# Altium schematic symbol library Esqlib.SchLib: 44 symbols (part 2 of 5)
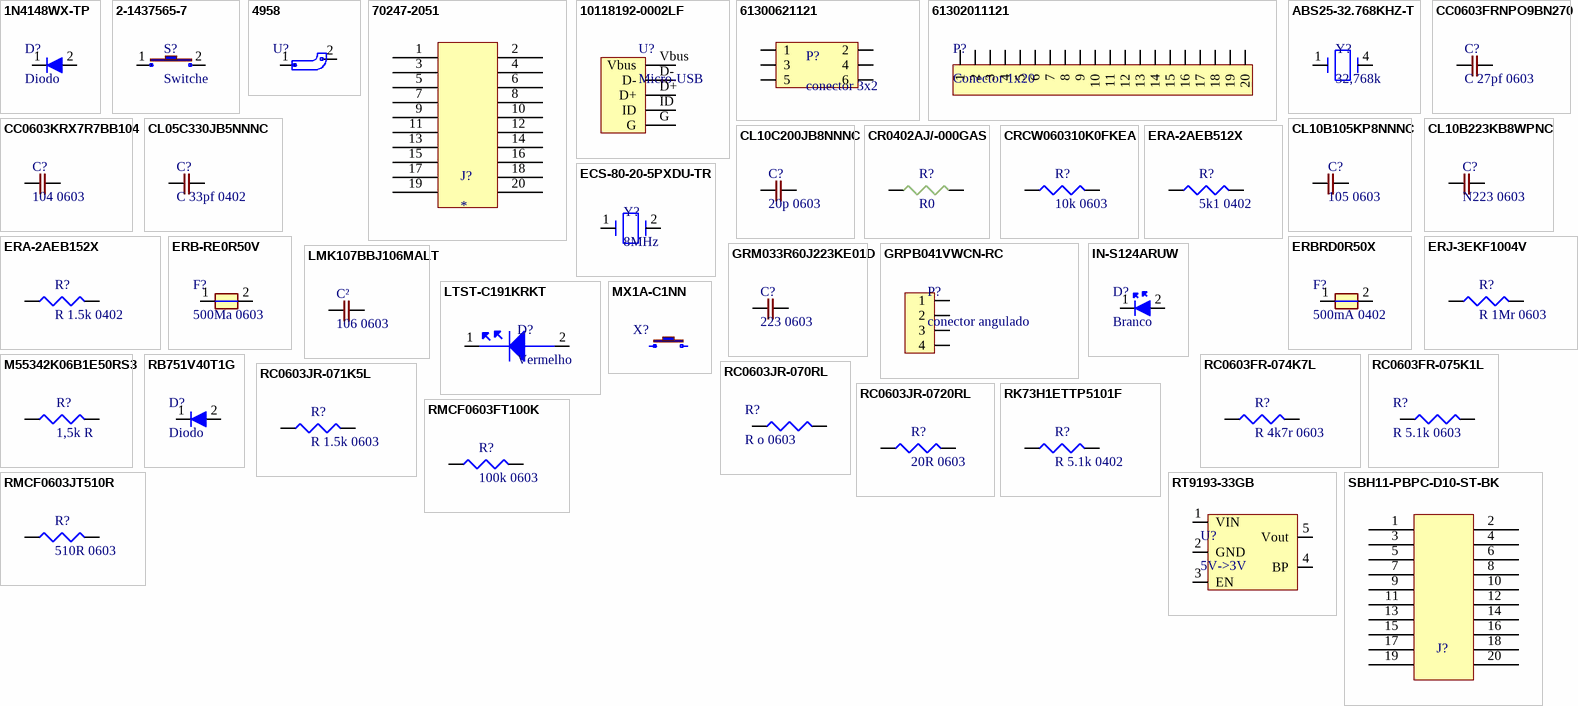
[diagram p2: symbols 1N4148WX-TP to SBH11-PBPC-D10-ST-BK]

## CL10B223KB8WPNC
designator C?, comment N223 0603
Ceramic Capacitor, Multilayer, Ceramic, 50V, 10% +Tol, 10% -Tol, X7R, +-15% TC, 22nF, Surface Mount, 0603 inch; Manufacturer: Samsung Electro-Mechanics; Manufacturer Part Number: CL10B223KB8WPNC; Supplier: DigiKey; Supplier Part Number: 1276-6534-1-ND; RoHS: Compliant; Category: Ceramic Capacitors; Stock: 843417; Pricing: 1=0,1, 10=0,041, 50=0,028, 100=0,024, 500=0,01736, 1000=0,01532 (USD); Value: 22nF; Case/Package: 0603; Case Code (Imperial): 0603; Case Code (Metric): 1608; China RoHS: Compliant; Dielectric Material: Ceramic; Features: Soft Termination; Height: 900µm; Length: 1.6002mm; Lifecycle Status: Production; Material: Ceramic; Max Operating Temperature: 125°C; Min Operating Temperature: -55°C; Mounting Technology: Surface Mount; Number of Terminals: 2; Packaging: Cut Tape (CT); Ratings: AEC-Q200; REACH SVHC: Yes; Thickness: 889µm; Tolerance: 10%; Voltage Rating: 50V; Voltage Rating (DC): 50V; Width: 787.4µm; ComponentLink1URL: https://datasheet.octopart.com:443/CL10B223KB8WPNC-Samsung-Electro-Mechanics-datasheet-176142735.pdf?src-supplier=Farnell; ComponentLink1Description: https://datasheet.octopart.com:443/CL10B223KB8WPNC-Samsung-Electro-Mechanics-datasheet-176142735.pdf?src-supplier=Farnell; ComponentLink2URL: https://datasheet.octopart.com:443/CL10B223KB8WPNC-Samsung-Electro-Mechanics-datasheet-140815180.pdf?src-supplier=Farnell; ComponentLink2Description: https://datasheet.octopart.com:443/CL10B223KB8WPNC-Samsung-Electro-Mechanics-datasheet-140815180.pdf?src-supplier=Farnell; ComponentLink3URL: https://datasheet.octopart.com:443/CL10B223KB8WPNC-Samsung-Electro-Mechanics-datasheet-141347181.pdf?src-supplier=Samsung+SCT; ComponentLink3Description: https://datasheet.octopart.com:443/CL10B223KB8WPNC-Samsung-Electro-Mechanics-datasheet-141347181.pdf?src-supplier=Samsung+SCT; ComponentLink4URL: https://datasheet.octopart.com:443/CL10B223KB8WPNC-Samsung-datasheet-8326407.pdf?src-supplier=TME; ComponentLink4Description: https://datasheet.octopart.com:443/CL10B223KB8WPNC-Samsung-datasheet-8326407.pdf?src-supplier=TME; ComponentLink5URL: https://datasheet.octopart.com:443/CL10B223KB8WPNC-Samsung-Electro-Mechanics-datasheet-149136823.pdf?src-supplier=Future+Electronics; ComponentLink5Description: https://datasheet.octopart.com:443/CL10B223KB8WPNC-Samsung-Electro-Mechanics-datasheet-149136823.pdf?src-supplier=Future+Electronics
footprint cap 223 0603
pins: 1, 2

## CL10C200JB8NNNC
designator C?, comment 20p 0603
50V 20pF C0G ±5% 0603 Multilayer Ceramic Capacitors MLCC - SMD/SMT ROHS; Manufacturer: Samsung Electro-Mechanics; Manufacturer Part Number: CL10C200JB8NNNC; Temperature Coefficient: 300ppm/°C; Supplier: DigiKey; Supplier Part Number: 1276-1187-1-ND; RoHS: Compliant; Category: Ceramic Capacitors; Stock: 151954; Pricing: 1=0,1, 10=0,035, 50=0,0238, 100=0,0203, 500=0,01452, 1000=0,01275 (USD); Value: 20pF; Case/Package: 0603; Case Code (Imperial): 0603; Case Code (Metric): 1608; China RoHS: Compliant; Depth: 800µm; Dielectric: C0G; Dielectric Material: Ceramic; Height: 900µm; Length: 1.6mm; Lifecycle Status: Production; Max Operating Temperature: 125°C; Min Operating Temperature: -55°C; Mounting Technology: Surface Mount; Number of Terminals: 2; Radiation Hardening: No; REACH SVHC: Yes; Schedule B: 8532240020, 8532240020|8532240020, 8532240020|8532240020|8532240020, 8532240020|8532240020|8532240020|8532240020; Thickness: 889µm; Tolerance: 5%; Voltage: 50V; Voltage Rating: 50V; Voltage Rating (DC): 50V; Width: 800µm; ComponentLink1URL: https://datasheet.octopart.com:443/CL10C200JB8NNNC-Samsung-Electro-Mechanics-datasheet-136482411.pdf?src-supplier=IHS; ComponentLink1Description: https://datasheet.octopart.com:443/CL10C200JB8NNNC-Samsung-Electro-Mechanics-datasheet-136482411.pdf?src-supplier=IHS; ComponentLink2URL: https://datasheet.octopart.com:443/CL10C200JB8NNNC-Samsung-Electro-Mechanics-datasheet-81462001.pdf?src-supplier=Upverter; ComponentLink2Description: https://datasheet.octopart.com:443/CL10C200JB8NNNC-Samsung-Electro-Mechanics-datasheet-81462001.pdf?src-supplier=Upverter; ComponentLink3URL: https://datasheet.octopart.com/CL10C200JB8NNNC-Samsung-Electro-Mechanics-datasheet-8324245.pdf; ComponentLink3Description: https://datasheet.octopart.com/CL10C200JB8NNNC-Samsung-Electro-Mechanics-datasheet-8324245.pdf; ComponentLink4URL: https://datasheet.octopart.com/CL10C200JB8NNNC-Samsung-Electro-Mechanics-datasheet-97040617.pdf; ComponentLink4Description: https://datasheet.octopart.com/CL10C200JB8NNNC-Samsung-Electro-Mechanics-datasheet-97040617.pdf; ComponentLink5URL: https://datasheet.octopart.com/General-Multilayer-Ceramic-Capacitors-Samsung-datasheet-family-111.pdf; ComponentLink5Description: https://datasheet.octopart.com/General-Multilayer-Ceramic-Capacitors-Samsung-datasheet-family-111.pdf; ComponentLink6URL: https://datasheet.octopart.com:443/CL10C200JB8NNNC-Samsung-Electro-Mechanics-datasheet-110226352.pdf?src-supplier=Future+Electronics; ComponentLink6Description: https://datasheet.octopart.com:443/CL10C200JB8NNNC-Samsung-Electro-Mechanics-datasheet-110226352.pdf?src-supplier=Future+Electronics; ComponentLink7URL: https://datasheet.octopart.com:443/CL10C200JB8NNNC-Samsung-datasheet-42280588.pdf?src-supplier=Future+Electronics; ComponentLink7Description: https://datasheet.octopart.com:443/CL10C200JB8NNNC-Samsung-datasheet-42280588.pdf?src-supplier=Future+Electronics; ComponentLink8URL: https://datasheet.octopart.com:443/CL10C200JB8NNNC-Samsung-datasheet-26669145.pdf?src-supplier=Future+Electronics; ComponentLink8Description: https://datasheet.octopart.com:443/CL10C200JB8NNNC-Samsung-datasheet-26669145.pdf?src-supplier=Future+Electronics; ComponentLink9URL: https://datasheet.octopart.com:443/CL10C200JB8NNNC-Samsung-Electro-Mechanics-datasheet-149136897.pdf?src-supplier=Future+Electronics; ComponentLink9Description: https://datasheet.octopart.com:443/CL10C200JB8NNNC-Samsung-Electro-Mechanics-datasheet-149136897.pdf?src-supplier=Future+Electronics; ComponentLink10URL: https://datasheet.octopart.com:443/CL10C200JB8NNNC-Samsung-datasheet-8326407.pdf?src-supplier=TME; ComponentLink10Description: https://datasheet.octopart.com:443/CL10C200JB8NNNC-Samsung-datasheet-8326407.pdf?src-supplier=TME; ComponentLink11URL: https://datasheet.octopart.com:443/CL10C200JB8NNNC-Samsung-Electro-Mechanics-datasheet-11541288.pdf?src-supplier=Arrow+Electronics; ComponentLink11Description: https://datasheet.octopart.com:443/CL10C200JB8NNNC-Samsung-Electro-Mechanics-datasheet-11541288.pdf?src-supplier=Arrow+Electronics; ComponentLink12URL: http://sigma.octopart.com:80/rohs_certificate/General-Multilayer-Ceramic-Capacitors-Samsung-family-110.pdf?src-supplier=Compliance+Statements; ComponentLink12Description: http://sigma.octopart.com:80/rohs_certificate/General-Multilayer-Ceramic-Capacitors-Samsung-family-110.pdf?src-supplier=Compliance+Statements; ComponentLink13URL: http://sigma.octopart.com:80/rohs_statement/General-Multilayer-Ceramic-Capacitors-Samsung-family-132.pdf?src-supplier=Compliance+Statements; ComponentLink13Description: http://sigma.octopart.com:80/rohs_statement/General-Multilayer-Ceramic-Capacitors-Samsung-family-132.pdf?src-supplier=Compliance+Statements; ComponentLink14URL: http://sigma.octopart.com:80/reach_statement/General-Multilayer-Ceramic-Capacitors-Samsung-family-133.pdf?src-supplier=Compliance+Statements; ComponentLink14Description: http://sigma.octopart.com:80/reach_statement/General-Multilayer-Ceramic-Capacitors-Samsung-family-133.pdf?src-supplier=Compliance+Statements
footprint Cap 20p 0603
pins: 1, 2

## CR0402AJ/-000GAS
designator R?, comment R0
Zero Ohm Resistor, Jumper, 0402 [1005 Metric], Thick Film, 63 mW, 1 A, Surface Mount Device; Manufacturer: Bourns; Manufacturer Part Number: CR0402AJ/-000GAS; Power Dissipation: 63mW; Value: 0Ω; Temperature Coefficient: 500ppm/°C; Voltage Rating (DC): 50V; Supplier: DigiKey; Supplier Part Number: CR0402AJ/-000GASCT-ND; RoHS: Compliant; Category: Chip SMD Resistors; Stock: 158716; Pricing: 1=0,1, 10=0,024, 25=0,018, 50=0,0144, 100=0,0117, 250=0,00808, 500=0,007, 1000=0,00628, 5000=0,00442 (USD); China RoHS: Non-Compliant; Height: 320µm; Lifecycle Status: Production; Max Operating Temperature: 155°C; Min Operating Temperature: -55°C; Mounting Technology: Surface Mount; Number of Terminals: 2; Power Rating: 63mW; REACH SVHC: Yes; Schedule B: 8533210045|8533210045|8533210045|8533210045|8533210045; Width: 500µm; ComponentLink1URL: https://datasheet.octopart.com:443/CR0402AJ--000GAS-Bourns-datasheet-181955238.pdf?src-supplier=IHS; ComponentLink1Description: https://datasheet.octopart.com:443/CR0402AJ--000GAS-Bourns-datasheet-181955238.pdf?src-supplier=IHS; ComponentLink2URL: https://datasheet.octopart.com:443/CR0402AJ--000GAS-Bourns-datasheet-181955240.pdf?src-supplier=IHS; ComponentLink2Description: https://datasheet.octopart.com:443/CR0402AJ--000GAS-Bourns-datasheet-181955240.pdf?src-supplier=IHS; ComponentLink3URL: https://datasheet.octopart.com:443/CR0402AJ--000GAS-Bourns-datasheet-166097895.pdf?src-supplier=Electro+Sonic; ComponentLink3Description: https://datasheet.octopart.com:443/CR0402AJ--000GAS-Bourns-datasheet-166097895.pdf?src-supplier=Electro+Sonic; ComponentLink4URL: https://datasheet.octopart.com:443/CR0402AJ--000GAS-Bourns-datasheet-136430691.pdf?src-supplier=Electro+Sonic; ComponentLink4Description: https://datasheet.octopart.com:443/CR0402AJ--000GAS-Bourns-datasheet-136430691.pdf?src-supplier=Electro+Sonic; ComponentLink5URL: http://sigma.octopart.com:80/conflict_mineral_statement/Bourns-company-36.pdf?src-supplier=Compliance+Statements; ComponentLink5Description: http://sigma.octopart.com:80/conflict_mineral_statement/Bourns-company-36.pdf?src-supplier=Compliance+Statements
footprint R0
pins: 1, 2

## CRCW060310K0FKEA
designator R?, comment 10k 0603
100mW Thick Film Resistors ±1% ±100ppm/℃ 10kΩ 0603 Chip Resistor - Surface Mount ROHS; Manufacturer: Vishay; Manufacturer Part Number: CRCW060310K0FKEA; Temperature Coefficient: 100ppm/°C; Voltage Rating: 75V; Supplier: DigiKey; Supplier Part Number: 541-10.0KHCT-ND; RoHS: Compliant; Category: Chip SMD Resistors; Stock: 1485347; Pricing: 1=0,1, 10=0,03, 25=0,0224, 50=0,0182, 100=0,0149, 250=0,01172, 500=0,00986, 1000=0,00842 (USD); Case/Package: 0603; Case Code (Imperial): 0603; China RoHS: Non-Compliant; Composition: Thick Film; Contact Plating: Lead, Tin; Depth: 850µm; Features: Automotive AEC-Q200; Height: 450µm; Lead Free: Lead Free; Length: 1.55mm; Lifecycle Status: Production; Max Operating Temperature: 155°C; Max Power Dissipation: 100mW; Military Standard: Not; Min Operating Temperature: -55°C; Mounting Technology: Surface Mount; Pins: 2; Number of Terminals: 2; Number of Terminations: 2; Packaging: Tape and Reel; Power Dissipation: 100mW; Power Rating: 100mW; Radiation Hardening: No; REACH SVHC: Yes; Value: 10kΩ; Schedule B: 8533210045, 8533210045|8533210045|8533210045|8533210045|8533210045|8533210045|8533210045|8533210045|8533210045|8533210045|8533210045|8533210045|8533210045|8533210045|8533210045|8533210045|8533210045|8533210045|8533210045|8533210045|8533210045|8533210045|8533210045|85; Termination: SMD/SMT; Tolerance: 1%; Voltage Rating (DC): 75V; Weight: 2.012816mg; Width: 850µm; Working Voltage: 75V; ComponentLink1URL: https://datasheet.octopart.com:443/CRCW060310K0FKEA-Vishay-datasheet-175423584.pdf?src-supplier=IHS; ComponentLink1Description: https://datasheet.octopart.com:443/CRCW060310K0FKEA-Vishay-datasheet-175423584.pdf?src-supplier=IHS; ComponentLink2URL: https://datasheet.octopart.com:443/CRCW060310K0FKEA-Vishay-datasheet-5300368.pdf?src-supplier=Future+Electronics; ComponentLink2Description: https://datasheet.octopart.com:443/CRCW060310K0FKEA-Vishay-datasheet-5300368.pdf?src-supplier=Future+Electronics; ComponentLink3URL: https://datasheet.octopart.com:443/CRCW060310K0FKEA-Vishay-datasheet-62316122.pdf?src-supplier=Upverter; ComponentLink3Description: https://datasheet.octopart.com:443/CRCW060310K0FKEA-Vishay-datasheet-62316122.pdf?src-supplier=Upverter; ComponentLink4URL: https://datasheet.octopart.com:443/CRCW060310K0FKEA-Vishay-datasheet-141434677.pdf?src-supplier=Upverter; ComponentLink4Description: https://datasheet.octopart.com:443/CRCW060310K0FKEA-Vishay-datasheet-141434677.pdf?src-supplier=Upverter; ComponentLink5URL: https://datasheet.octopart.com:443/CRCW060310K0FKEA-Vishay-datasheet-83961561.pdf?src-supplier=Newark; ComponentLink5Description: https://datasheet.octopart.com:443/CRCW060310K0FKEA-Vishay-datasheet-83961561.pdf?src-supplier=Newark; ComponentLink6URL: https://datasheet.octopart.com:443/CRCW060310K0FKEA-Vishay-datasheet-14722531.pdf?src-supplier=Newark; ComponentLink6Description: https://datasheet.octopart.com:443/CRCW060310K0FKEA-Vishay-datasheet-14722531.pdf?src-supplier=Newark; ComponentLink7URL: https://datasheet.octopart.com:443/CRCW060310K0FKEA-Vishay-datasheet-11516975.pdf?src-supplier=Newark; ComponentLink7Description: https://datasheet.octopart.com:443/CRCW060310K0FKEA-Vishay-datasheet-11516975.pdf?src-supplier=Newark; ComponentLink8URL: https://datasheet.octopart.com:443/CRCW060310K0FKEA-Vishay-datasheet-41302739.pdf?src-supplier=Newark; ComponentLink8Description: https://datasheet.octopart.com:443/CRCW060310K0FKEA-Vishay-datasheet-41302739.pdf?src-supplier=Newark; ComponentLink9URL: https://datasheet.octopart.com:443/CRCW060310K0FKEA-Vishay-datasheet-33013972.pdf?src-supplier=Newark; ComponentLink9Description: https://datasheet.octopart.com:443/CRCW060310K0FKEA-Vishay-datasheet-33013972.pdf?src-supplier=Newark; ComponentLink10URL: https://datasheet.octopart.com:443/CRCW060310K0FKEA-Vishay-datasheet-21226360.pdf?src-supplier=Newark; ComponentLink10Description: https://datasheet.octopart.com:443/CRCW060310K0FKEA-Vishay-datasheet-21226360.pdf?src-supplier=Newark; ComponentLink11URL: https://datasheet.octopart.com:443/CRCW060310K0FKEA-Vishay-datasheet-62317933.pdf?src-supplier=element14+APAC; ComponentLink11Description: https://datasheet.octopart.com:443/CRCW060310K0FKEA-Vishay-datasheet-62317933.pdf?src-supplier=element14+APAC; ComponentLink12URL: https://datasheet.octopart.com:443/CRCW060310K0FKEA-Vishay-datasheet-16179825.pdf?src-supplier=element14+APAC; ComponentLink12Description: https://datasheet.octopart.com:443/CRCW060310K0FKEA-Vishay-datasheet-16179825.pdf?src-supplier=element14+APAC; ComponentLink13URL: https://datasheet.octopart.com:443/CRCW060310K0FKEA-Vishay-datasheet-66077789.pdf?src-supplier=element14+APAC; ComponentLink13Description: https://datasheet.octopart.com:443/CRCW060310K0FKEA-Vishay-datasheet-66077789.pdf?src-supplier=element14+APAC; ComponentLink14URL: https://datasheet.octopart.com:443/CRCW060310K0FKEA-Vishay-datasheet-5306405.pdf?src-supplier=RS+(Formerly+Allied+Electronics); ComponentLink14Description: https://datasheet.octopart.com:443/CRCW060310K0FKEA-Vishay-datasheet-5306405.pdf?src-supplier=RS+(Formerly+Allied+Electronics); ComponentLink15URL: https://datasheet.octopart.com:443/CRCW060310K0FKEA-Vishay-Dale-datasheet-47688880.pdf?src-supplier=RS+(Formerly+Allied+Electronics); ComponentLink15Description: https://datasheet.octopart.com:443/CRCW060310K0FKEA-Vishay-Dale-datasheet-47688880.pdf?src-supplier=RS+(Formerly+Allied+Electronics); ComponentLink16URL: https://datasheet.octopart.com:443/CRCW060310K0FKEA-Vishay-datasheet-12001583.pdf?src-supplier=RS+(Formerly+Allied+Electronics); ComponentLink16Description: https://datasheet.octopart.com:443/CRCW060310K0FKEA-Vishay-datasheet-12001583.pdf?src-supplier=RS+(Formerly+Allied+Electronics); ComponentLink17URL: https://datasheet.octopart.com:443/CRCW060310K0FKEA-Vishay-datasheet-17834126.pdf?src-supplier=TME; ComponentLink17Description: https://datasheet.octopart.com:443/CRCW060310K0FKEA-Vishay-datasheet-17834126.pdf?src-supplier=TME; ComponentLink18URL: https://datasheet.octopart.com/D-CRCW-e3-Standard-Thick-Film-Chip-Resistors-Vishay-datasheet-family-64.pdf; ComponentLink18Description: https://datasheet.octopart.com/D-CRCW-e3-Standard-Thick-Film-Chip-Resistors-Vishay-datasheet-family-64.pdf; ComponentLink19URL: https://datasheet.octopart.com:443/CRCW060310K0FKEA-Vishay-datasheet-13242068.pdf?src-supplier=Farnell; ComponentLink19Description: https://datasheet.octopart.com:443/CRCW060310K0FKEA-Vishay-datasheet-13242068.pdf?src-supplier=Farnell; ComponentLink20URL: https://datasheet.octopart.com:443/CRCW060310K0FKEA-Vishay-datasheet-13195083.pdf?src-supplier=Farnell; ComponentLink20Description: https://datasheet.octopart.com:443/CRCW060310K0FKEA-Vishay-datasheet-13195083.pdf?src-supplier=Farnell; ComponentLink21URL: https://datasheet.octopart.com:443/CRCW060310K0FKEA-Vishay-datasheet-13034211.pdf?src-supplier=Farnell; ComponentLink21Description: https://datasheet.octopart.com:443/CRCW060310K0FKEA-Vishay-datasheet-13034211.pdf?src-supplier=Farnell; ComponentLink22URL: https://datasheet.octopart.com:443/CRCW060310K0FKEA-Vishay-datasheet-12600034.pdf?src-supplier=Farnell; ComponentLink22Description: https://datasheet.octopart.com:443/CRCW060310K0FKEA-Vishay-datasheet-12600034.pdf?src-supplier=Farnell; ComponentLink23URL: https://datasheet.octopart.com:443/CRCW060310K0FKEA-Vishay-datasheet-12532161.pdf?src-supplier=Farnell; ComponentLink23Description: https://datasheet.octopart.com:443/CRCW060310K0FKEA-Vishay-datasheet-12532161.pdf?src-supplier=Farnell; ComponentLink24URL: https://datasheet.octopart.com:443/CRCW060310K0FKEA-Vishay-datasheet-12517896.pdf?src-supplier=Farnell; ComponentLink24Description: https://datasheet.octopart.com:443/CRCW060310K0FKEA-Vishay-datasheet-12517896.pdf?src-supplier=Farnell; ComponentLink25URL: https://datasheet.octopart.com:443/CRCW060310K0FKEA-Vishay-datasheet-12509762.pdf?src-supplier=Farnell; ComponentLink25Description: https://datasheet.octopart.com:443/CRCW060310K0FKEA-Vishay-datasheet-12509762.pdf?src-supplier=Farnell; ComponentLink26URL: https://datasheet.octopart.com:443/CRCW060310K0FKEA-Vishay-datasheet-10322335.pdf?src-supplier=Farnell; ComponentLink26Description: https://datasheet.octopart.com:443/CRCW060310K0FKEA-Vishay-datasheet-10322335.pdf?src-supplier=Farnell; ComponentLink27URL: https://datasheet.octopart.com:443/CRCW060310K0FKEA-Vishay-datasheet-8788789.pdf?src-supplier=Farnell; ComponentLink27Description: https://datasheet.octopart.com:443/CRCW060310K0FKEA-Vishay-datasheet-8788789.pdf?src-supplier=Farnell; ComponentLink28URL: https://datasheet.octopart.com:443/CRCW060310K0FKEA-Vishay-datasheet-8361388.pdf?src-supplier=Farnell; ComponentLink28Description: https://datasheet.octopart.com:443/CRCW060310K0FKEA-Vishay-datasheet-8361388.pdf?src-supplier=Farnell; ComponentLink29URL: https://datasheet.octopart.com:443/CRCW060310K0FKEA-Vishay-datasheet-546287.pdf?src-supplier=Farnell; ComponentLink29Description: https://datasheet.octopart.com:443/CRCW060310K0FKEA-Vishay-datasheet-546287.pdf?src-supplier=Farnell; ComponentLink30URL: https://datasheet.octopart.com:443/CRCW060310K0FKEA-Vishay-datasheet-8619608.pdf?src-supplier=element14; ComponentLink30Description: https://datasheet.octopart.com:443/CRCW060310K0FKEA-Vishay-datasheet-8619608.pdf?src-supplier=element14; ComponentLink31URL: https://datasheet.octopart.com:443/CRCW060310K0FKEA-Vishay-datasheet-5377433.pdf?src-supplier=Garrett; ComponentLink31Description: https://datasheet.octopart.com:443/CRCW060310K0FKEA-Vishay-datasheet-5377433.pdf?src-supplier=Garrett; ComponentLink32URL: https://datasheet.octopart.com:443/CRCW060310K0FKEA-Vishay-datasheet-148188.pdf?src-supplier=Garrett; ComponentLink32Description: https://datasheet.octopart.com:443/CRCW060310K0FKEA-Vishay-datasheet-148188.pdf?src-supplier=Garrett; ComponentLink33URL: https://datasheet.octopart.com:443/CRCW060310K0FKEA-Vishay-datasheet-30224.pdf?src-supplier=Garrett; ComponentLink33Description: https://datasheet.octopart.com:443/CRCW060310K0FKEA-Vishay-datasheet-30224.pdf?src-supplier=Garrett; ComponentLink34URL: https://datasheet.octopart.com:443/CRCW060310K0FKEA-Vishay-datasheet-11835177.pdf?src-supplier=Arrow+Electronics; ComponentLink34Description: https://datasheet.octopart.com:443/CRCW060310K0FKEA-Vishay-datasheet-11835177.pdf?src-supplier=Arrow+Electronics; ComponentLink35URL: http://sigma.octopart.com:80/rohs_certificate/D-CRCW-e3-Standard-Thick-Film-Chip-Resistors-Vishay-family-102.pdf?src-supplier=Compliance+Statements; ComponentLink35Description: http://sigma.octopart.com:80/rohs_certificate/D-CRCW-e3-Standard-Thick-Film-Chip-Resistors-Vishay-family-102.pdf?src-supplier=Compliance+Statements
footprint Resistor 10k 0603
pins: 1, 2

## ECS-80-20-5PXDU-TR
designator Y?, comment 8MHz
Crystal 8MHz ±30ppm (Tol) ±100ppm (Stability) 20pF FUND 60Ohm 2-Pin SMD T/R; Manufacturer: ECS International; Manufacturer Part Number: ECS-80-20-5PXDU-TR; ESR (Equivalent Series Resistance): 60Ω; Frequency Tolerance: 0.003%; Supplier: DigiKey; Supplier Part Number: XC1526CT-ND; RoHS: Compliant; Category: Crystals; Stock: 26910; Pricing: 1=0,44, 10=0,384, 25=0,3632, 50=0,3482, 100=0,3337, 250=0,31564, 500=0,30256 (USD); China RoHS: Compliant; Frequency: 8MHz; Frequency Stability: 100ppm; Height: 4.2926mm; Lead Free: Lead Free; Length: 11.4046mm; Lifecycle Status: Production; Load Capacitance: 20pF; Max Operating Temperature: 125°C; Min Operating Temperature: -55°C; Mounting Technology: Surface Mount; Packaging: Cut Tape (CT); REACH SVHC: Yes; Schedule B: 8541600025, 8541600025|8541600025, 8541600025|8541600025|8541600025, 8541600025|8541600025|8541600025|8541600025; ESR: 60Ω; Termination: SMD/SMT; Tolerance: 0.003%; Width: 4.8006mm; ComponentLink1URL: https://datasheet.octopart.com:443/ECS-80-20-5PXDU-TR-ECS-International-datasheet-17018830.pdf?src-supplier=IHS; ComponentLink1Description: https://datasheet.octopart.com:443/ECS-80-20-5PXDU-TR-ECS-International-datasheet-17018830.pdf?src-supplier=IHS; ComponentLink2URL: https://datasheet.octopart.com:443/ECS-80-20-5PXDU-TR-ECS-International-datasheet-166511516.pdf?src-supplier=Master+Electronics; ComponentLink2Description: https://datasheet.octopart.com:443/ECS-80-20-5PXDU-TR-ECS-International-datasheet-166511516.pdf?src-supplier=Master+Electronics; ComponentLink3URL: https://datasheet.octopart.com:443/ECS-80-20-5PXDU-TR-ECS-International-datasheet-14433430.pdf?src-supplier=Factory+Futures; ComponentLink3Description: https://datasheet.octopart.com:443/ECS-80-20-5PXDU-TR-ECS-International-datasheet-14433430.pdf?src-supplier=Factory+Futures; ComponentLink4URL: https://datasheet.octopart.com:443/ECS-80-20-5PXDU-TR-ECS-International-datasheet-17018642.pdf?src-supplier=Future+Electronics; ComponentLink4Description: https://datasheet.octopart.com:443/ECS-80-20-5PXDU-TR-ECS-International-datasheet-17018642.pdf?src-supplier=Future+Electronics; ComponentLink5URL: https://datasheet.octopart.com:443/ECS-80-20-5PXDU-TR-ECS-datasheet-23531.pdf?src-supplier=Mouser; ComponentLink5Description: https://datasheet.octopart.com:443/ECS-80-20-5PXDU-TR-ECS-datasheet-23531.pdf?src-supplier=Mouser
footprint Cristal 8MHz
pins: 1, 2

## ERA-2AEB152X
designator R?, comment R 1.5k 0402
Res Thin Film 0402 1.5K Ohm 0.1% 0.063W ±25ppm/°C Molded SMD Punched Carrier T/R; Manufacturer: Panasonic; Manufacturer Part Number: ERA-2AEB152X; Manufacturer Lifecycle Status: ACTIVE; Part Series: Thin Film Chip Resistors, High Reliability Type; Max Power Dissipation: 63mW; Value: 1.5kΩ; Voltage Rating: 50V; Voltage Rating (DC): 25V; Supplier: DigiKey; Supplier Part Number: P1.5KDCCT-ND; RoHS: Compliant; Category: Chip SMD Resistors; Stock: 105630; Pricing: 1=0,1, 10=0,082, 25=0,076, 50=0,0716, 100=0,0677, 250=0,0628, 500=0,05944, 1000=0,05637, 5000=0,05032 (USD); Case/Package: 0402; Case Code (Imperial): 0402; Case Code (Metric): 1005; China RoHS: Non-Compliant; Composition: Thin Film; Contact Plating: Tin; Depth: 500µm; Features: Automotive AEC-Q200; Height: 350µm; Lead Free: Lead Free; Length: 1mm; Lifecycle Status: Production; Max Operating Temperature: 155°C; Military Standard: Not; Min Operating Temperature: -55°C; Mounting Technology: Surface Mount; Pins: 2; Number of Terminals: 2; Number of Terminations: 2; Packaging: Cut Tape; Power Dissipation: 63mW; Power Rating: 63mW; Radiation Hardening: No; REACH SVHC: Yes; Schedule B: 8533210045, 8533210045|8533210045|8533210045|8533210045|8533210045|8533210045|8533210045|8533210045|8533210045|8533210045|8533210045|8533210045|8533210045|8533210045|8533210045|8533210045|8533210045|8533210045|8533210045|8533210045|8533210045|8533210045|8533210045|85; Temperature Coefficient: 25ppm/°C; Termination: SMD/SMT; Tolerance: 0.1%; Width: 500µm; Working Voltage: 50V; ComponentLink1URL: https://datasheet.octopart.com:443/ERA-2AEB152X-Panasonic-datasheet-62287448.pdf?src-supplier=Panasonic; ComponentLink1Description: https://datasheet.octopart.com:443/ERA-2AEB152X-Panasonic-datasheet-62287448.pdf?src-supplier=Panasonic; ComponentLink2URL: https://datasheet.octopart.com:443/ERA2AEB152X-Panasonic-datasheet-181959660.pdf?src-supplier=IHS; ComponentLink2Description: https://datasheet.octopart.com:443/ERA2AEB152X-Panasonic-datasheet-181959660.pdf?src-supplier=IHS; ComponentLink3URL: https://datasheet.octopart.com:443/ERA-2AEB152X-Panasonic-datasheet-13266200.pdf?src-supplier=RS+(Formerly+Allied+Electronics); ComponentLink3Description: https://datasheet.octopart.com:443/ERA-2AEB152X-Panasonic-datasheet-13266200.pdf?src-supplier=RS+(Formerly+Allied+Electronics); ComponentLink4URL: https://datasheet.octopart.com:443/ERA-2AEB152X-Panasonic-datasheet-136531316.pdf?src-supplier=TME; ComponentLink4Description: https://datasheet.octopart.com:443/ERA-2AEB152X-Panasonic-datasheet-136531316.pdf?src-supplier=TME; ComponentLink5URL: https://datasheet.octopart.com:443/ERA2AEB152X-Panasonic-datasheet-188913046.pdf?src-supplier=TME; ComponentLink5Description: https://datasheet.octopart.com:443/ERA2AEB152X-Panasonic-datasheet-188913046.pdf?src-supplier=TME; ComponentLink6URL: https://datasheet.octopart.com:443/ERA-2AEB152X-Panasonic-datasheet-10840895.pdf?src-supplier=Future+Electronics; ComponentLink6Description: https://datasheet.octopart.com:443/ERA-2AEB152X-Panasonic-datasheet-10840895.pdf?src-supplier=Future+Electronics; ComponentLink7URL: https://datasheet.octopart.com:443/ERA-2AEB152X-Panasonic-datasheet-12510007.pdf?src-supplier=Future+Electronics; ComponentLink7Description: https://datasheet.octopart.com:443/ERA-2AEB152X-Panasonic-datasheet-12510007.pdf?src-supplier=Future+Electronics; ComponentLink8URL: https://datasheet.octopart.com:443/ERA-2AEB152X-Panasonic-datasheet-11763931.pdf?src-supplier=Future+Electronics; ComponentLink8Description: https://datasheet.octopart.com:443/ERA-2AEB152X-Panasonic-datasheet-11763931.pdf?src-supplier=Future+Electronics; ComponentLink9URL: https://datasheet.octopart.com:443/ERA-2AEB152X-Panasonic-datasheet-8367715.pdf?src-supplier=Future+Electronics; ComponentLink9Description: https://datasheet.octopart.com:443/ERA-2AEB152X-Panasonic-datasheet-8367715.pdf?src-supplier=Future+Electronics; ComponentLink10URL: https://datasheet.octopart.com:443/ERA-2AEB152X-Panasonic-datasheet-5392808.pdf?src-supplier=Future+Electronics; ComponentLink10Description: https://datasheet.octopart.com:443/ERA-2AEB152X-Panasonic-datasheet-5392808.pdf?src-supplier=Future+Electronics; ComponentLink11URL: https://datasheet.octopart.com:443/ERA-2AEB152X-Panasonic-datasheet-22087624.pdf?src-supplier=element14+APAC; ComponentLink11Description: https://datasheet.octopart.com:443/ERA-2AEB152X-Panasonic-datasheet-22087624.pdf?src-supplier=element14+APAC; ComponentLink12URL: https://datasheet.octopart.com:443/ERA-2AEB152X-Panasonic-datasheet-154766165.pdf?src-supplier=Master+Electronics; ComponentLink12Description: https://datasheet.octopart.com:443/ERA-2AEB152X-Panasonic-datasheet-154766165.pdf?src-supplier=Master+Electronics; ComponentLink13URL: https://datasheet.octopart.com:443/ERA2AEB152X-Panasonic-datasheet-5311861.pdf?src-supplier=element14; ComponentLink13Description: https://datasheet.octopart.com:443/ERA2AEB152X-Panasonic-datasheet-5311861.pdf?src-supplier=element14; ComponentLink14URL: https://datasheet.octopart.com:443/ERA-2AEB152X-Panasonic-datasheet-7542722.pdf?src-supplier=Newark; ComponentLink14Description: https://datasheet.octopart.com:443/ERA-2AEB152X-Panasonic-datasheet-7542722.pdf?src-supplier=Newark; ComponentLink15URL: https://datasheet.octopart.com:443/ERA-2AEB152X-Panasonic-datasheet-61114971.pdf?src-supplier=Newark; ComponentLink15Description: https://datasheet.octopart.com:443/ERA-2AEB152X-Panasonic-datasheet-61114971.pdf?src-supplier=Newark; ComponentLink16URL: https://datasheet.octopart.com:443/ERA2AEB152X-Panasonic-datasheet-184398012.pdf?src-supplier=Electro+Sonic; ComponentLink16Description: https://datasheet.octopart.com:443/ERA2AEB152X-Panasonic-datasheet-184398012.pdf?src-supplier=Electro+Sonic; ComponentLink17URL: https://datasheet.octopart.com:443/ERA-2AEB152X-Panasonic-datasheet-33006989.pdf?src-supplier=Electro+Sonic; ComponentLink17Description: https://datasheet.octopart.com:443/ERA-2AEB152X-Panasonic-datasheet-33006989.pdf?src-supplier=Electro+Sonic; ComponentLink18URL: https://datasheet.octopart.com:443/ERA-2AEB152X-Panasonic-datasheet-46744048.pdf?src-supplier=Electro+Sonic; ComponentLink18Description: https://datasheet.octopart.com:443/ERA-2AEB152X-Panasonic-datasheet-46744048.pdf?src-supplier=Electro+Sonic; ComponentLink19URL: https://sigma.octopart.com:443/150570796/technical_drawing/Panasonic-ERA2AEB152X.pdf?src-supplier=Panasonic+SCT; ComponentLink19Description: https://sigma.octopart.com:443/150570796/technical_drawing/Panasonic-ERA2AEB152X.pdf?src-supplier=Panasonic+SCT; ComponentLink20URL: https://datasheet.octopart.com/ERA-2AEB152X-Panasonic-datasheet-78375410.pdf; ComponentLink20Description: https://datasheet.octopart.com/ERA-2AEB152X-Panasonic-datasheet-78375410.pdf; ComponentLink21URL: https://datasheet.octopart.com:443/ERA2AEB152X-Panasonic---ECG-datasheet-15994758.pdf?src-supplier=Farnell; ComponentLink21Description: https://datasheet.octopart.com:443/ERA2AEB152X-Panasonic---ECG-datasheet-15994758.pdf?src-supplier=Farnell
footprint R 1.5k 0402
pins: 1, 2

## ERA-2AEB512X
designator R?, comment 5k1 0402
Res Thin Film 0402 5.1K Ohm 0.1% 0.063W ±25ppm/°C Molded SMD Punched Carrier T/R; Manufacturer: Panasonic; Manufacturer Part Number: ERA-2AEB512X; Max Power Dissipation: 63mW; Value: 5.1kΩ; Voltage Rating: 25V; Working Voltage: 50V; Supplier: DigiKey; Supplier Part Number: P5.1KDCCT-ND; RoHS: Compliant; Category: Chip SMD Resistors; Stock: 30801; Pricing: 1=0,1, 10=0,082, 25=0,076, 50=0,0716, 100=0,0677, 250=0,0628, 500=0,05944, 1000=0,05637, 5000=0,05032 (USD); Case/Package: 0402; Case Code (Imperial): 0402; Case Code (Metric): 1005; China RoHS: Non-Compliant; Composition: Metal Film, Thin Film; Contact Plating: Tin; Depth: 500µm; Height: 350µm; Lead Free: Lead Free; Length: 1mm; Lifecycle Status: Production; Max Operating Temperature: 155°C; Military Standard: Not; Min Operating Temperature: -55°C; Mounting Technology: Surface Mount; Number of Terminals: 2; Number of Terminations: 2; Packaging: Cut Tape; Power Dissipation: 63mW; Power Rating: 63mW; Radiation Hardening: No; REACH SVHC: Yes; Schedule B: 8533210045, 8533210045|8533210045|8533210045|8533210045|8533210045; Temperature Coefficient: 25ppm/°C; Termination: SMD/SMT; Tolerance: 0.1%; Voltage Rating (DC): 25V; Width: 500µm; ComponentLink1URL: https://datasheet.octopart.com:443/ERA-2AEB512X-Panasonic-datasheet-62287448.pdf?src-supplier=Newark; ComponentLink1Description: https://datasheet.octopart.com:443/ERA-2AEB512X-Panasonic-datasheet-62287448.pdf?src-supplier=Newark; ComponentLink2URL: https://datasheet.octopart.com:443/ERA-2AEB512X-Panasonic-datasheet-136531316.pdf?src-supplier=Newark; ComponentLink2Description: https://datasheet.octopart.com:443/ERA-2AEB512X-Panasonic-datasheet-136531316.pdf?src-supplier=Newark; ComponentLink3URL: https://datasheet.octopart.com:443/ERA-2AEB512X-Panasonic-datasheet-165151108.pdf?src-supplier=Newark; ComponentLink3Description: https://datasheet.octopart.com:443/ERA-2AEB512X-Panasonic-datasheet-165151108.pdf?src-supplier=Newark; ComponentLink4URL: https://datasheet.octopart.com:443/ERA-2AEB512X-Panasonic-datasheet-13266200.pdf?src-supplier=Future+Electronics; ComponentLink4Description: https://datasheet.octopart.com:443/ERA-2AEB512X-Panasonic-datasheet-13266200.pdf?src-supplier=Future+Electronics; ComponentLink5URL: https://datasheet.octopart.com:443/ERA-2AEB512X-Panasonic-datasheet-12510007.pdf?src-supplier=Future+Electronics; ComponentLink5Description: https://datasheet.octopart.com:443/ERA-2AEB512X-Panasonic-datasheet-12510007.pdf?src-supplier=Future+Electronics; ComponentLink6URL: https://datasheet.octopart.com:443/ERA-2AEB512X-Panasonic-datasheet-11763931.pdf?src-supplier=Future+Electronics; ComponentLink6Description: https://datasheet.octopart.com:443/ERA-2AEB512X-Panasonic-datasheet-11763931.pdf?src-supplier=Future+Electronics; ComponentLink7URL: https://datasheet.octopart.com:443/ERA-2AEB512X-Panasonic-datasheet-10840895.pdf?src-supplier=Future+Electronics; ComponentLink7Description: https://datasheet.octopart.com:443/ERA-2AEB512X-Panasonic-datasheet-10840895.pdf?src-supplier=Future+Electronics; ComponentLink8URL: https://datasheet.octopart.com:443/ERA-2AEB512X-Panasonic-datasheet-8367715.pdf?src-supplier=Future+Electronics; ComponentLink8Description: https://datasheet.octopart.com:443/ERA-2AEB512X-Panasonic-datasheet-8367715.pdf?src-supplier=Future+Electronics; ComponentLink9URL: https://datasheet.octopart.com:443/ERA-2AEB512X-Panasonic-datasheet-5392808.pdf?src-supplier=Future+Electronics; ComponentLink9Description: https://datasheet.octopart.com:443/ERA-2AEB512X-Panasonic-datasheet-5392808.pdf?src-supplier=Future+Electronics; ComponentLink10URL: https://datasheet.octopart.com:443/ERA-2AEB512X-Panasonic-datasheet-22087624.pdf?src-supplier=element14+APAC; ComponentLink10Description: https://datasheet.octopart.com:443/ERA-2AEB512X-Panasonic-datasheet-22087624.pdf?src-supplier=element14+APAC; ComponentLink11URL: https://datasheet.octopart.com:443/ERA-2AEB512X-Panasonic-datasheet-61114971.pdf?src-supplier=element14+APAC; ComponentLink11Description: https://datasheet.octopart.com:443/ERA-2AEB512X-Panasonic-datasheet-61114971.pdf?src-supplier=element14+APAC; ComponentLink12URL: https://datasheet.octopart.com:443/ERA-2AEB512X-Panasonic-datasheet-154766165.pdf?src-supplier=Master+Electronics; ComponentLink12Description: https://datasheet.octopart.com:443/ERA-2AEB512X-Panasonic-datasheet-154766165.pdf?src-supplier=Master+Electronics; ComponentLink13URL: https://datasheet.octopart.com:443/ERA2AEB512X-Panasonic-datasheet-188913046.pdf?src-supplier=TME; ComponentLink13Description: https://datasheet.octopart.com:443/ERA2AEB512X-Panasonic-datasheet-188913046.pdf?src-supplier=TME; ComponentLink14URL: https://sigma.octopart.com:443/150570796/technical_drawing/Panasonic-ERA2AEB512X.pdf?src-supplier=Panasonic+SCT; ComponentLink14Description: https://sigma.octopart.com:443/150570796/technical_drawing/Panasonic-ERA2AEB512X.pdf?src-supplier=Panasonic+SCT; ComponentLink15URL: https://datasheet.octopart.com/ERA-2AEB512X-Panasonic-datasheet-78375410.pdf; ComponentLink15Description: https://datasheet.octopart.com/ERA-2AEB512X-Panasonic-datasheet-78375410.pdf; ComponentLink16URL: https://datasheet.octopart.com:443/ERA-2AEB512X-Panasonic---ECG-datasheet-15994758.pdf?src-supplier=Farnell; ComponentLink16Description: https://datasheet.octopart.com:443/ERA-2AEB512X-Panasonic---ECG-datasheet-15994758.pdf?src-supplier=Farnell; ComponentLink17URL: https://datasheet.octopart.com:443/ERA-2AEB512X-Panasonic-datasheet-33006989.pdf?src-supplier=Electro+Sonic; ComponentLink17Description: https://datasheet.octopart.com:443/ERA-2AEB512X-Panasonic-datasheet-33006989.pdf?src-supplier=Electro+Sonic; ComponentLink18URL: https://datasheet.octopart.com:443/ERA-2AEB512X-Panasonic-datasheet-46744048.pdf?src-supplier=Electro+Sonic; ComponentLink18Description: https://datasheet.octopart.com:443/ERA-2AEB512X-Panasonic-datasheet-46744048.pdf?src-supplier=Electro+Sonic
footprint R 5k1 0402
pins: 1, 2

## ERB-RE0R50V
designator F?, comment 500Ma 0603
Fuse Chip Fast Acting 0.5A 32V SMD Solder Pad 0603 1.6 X 0.8 X 0.54mm T/R UL/cUL; Manufacturer: Panasonic; Manufacturer Part Number: ERB-RE0R50V; Manufacturer Lifecycle Status: ACTIVE; Part Series: Micro Chip Fuse; Approvals: UL; Body Material: Alumina; Value: 330mΩ; Supplier: DigiKey; Supplier Part Number: P15127CT-ND; RoHS: Compliant; Category: Fuses; Stock: 106595; Pricing: 1=0,32, 5=0,262, 10=0,241, 50=0,2, 100=0,1846, 250=0,16596, 500=0,15312, 1000=0,14123 (USD); Case/Package: 0603; Case Code (Imperial): 0603; Case Code (Metric): 1608; Current: 500mA; Current Rating: 500mA; Depth: 800µm; Fuse Current: 500mA; Height: 540µm; Length: 1.6mm; Lifecycle Status: Production; Max Operating Temperature: 125°C; Max Voltage Rating (DC): 32V; Manufacturer Package Identifier: ERB-RE0R50V; Min Operating Temperature: -40°C; Mounting Technology: Surface Mount; Pins: 2; Packaging: Cut Tape; Radiation Hardening: No; REACH SVHC: Yes; Voltage Rating: 32V; Voltage Rating (DC): 32V; Width: 800µm; ComponentLink1URL: https://datasheet.octopart.com:443/ERB-RE0R50V-Panasonic-datasheet-78834729.pdf?src-supplier=Newark; ComponentLink1Description: https://datasheet.octopart.com:443/ERB-RE0R50V-Panasonic-datasheet-78834729.pdf?src-supplier=Newark; ComponentLink2URL: https://datasheet.octopart.com:443/ERB-RE0R50V-Panasonic-datasheet-11844109.pdf?src-supplier=RS+(Formerly+Allied+Electronics); ComponentLink2Description: https://datasheet.octopart.com:443/ERB-RE0R50V-Panasonic-datasheet-11844109.pdf?src-supplier=RS+(Formerly+Allied+Electronics); ComponentLink3URL: https://datasheet.octopart.com:443/ERB-RE0R50V-Panasonic-datasheet-136807619.pdf?src-supplier=Farnell; ComponentLink3Description: https://datasheet.octopart.com:443/ERB-RE0R50V-Panasonic-datasheet-136807619.pdf?src-supplier=Farnell; ComponentLink4URL: https://datasheet.octopart.com:443/ERB-RE0R50V-Panasonic-datasheet-10129016.pdf?src-supplier=element14+APAC; ComponentLink4Description: https://datasheet.octopart.com:443/ERB-RE0R50V-Panasonic-datasheet-10129016.pdf?src-supplier=element14+APAC; ComponentLink5URL: https://datasheet.octopart.com:443/ERB-RE0R50V-Panasonic-datasheet-37173566.pdf?src-supplier=Electro+Sonic; ComponentLink5Description: https://datasheet.octopart.com:443/ERB-RE0R50V-Panasonic-datasheet-37173566.pdf?src-supplier=Electro+Sonic; ComponentLink6URL: https://datasheet.octopart.com:443/ERB-RE0R50V-Panasonic-datasheet-44403852.pdf?src-supplier=Electro+Sonic; ComponentLink6Description: https://datasheet.octopart.com:443/ERB-RE0R50V-Panasonic-datasheet-44403852.pdf?src-supplier=Electro+Sonic
footprint F 500ma 0603
pins: 1, 2

## ERBRD0R50X
designator F?, comment 500mA 0402
Fuse Chip Fast Acting 0.5A 32V SMD Solder Pad 0402 1 X 0.5 X 0.39mm T/R UL/cUL; Manufacturer: Panasonic; Manufacturer Part Number: ERBRD0R50X; Approvals: UL; Body Material: Alumina; Value: 310mΩ; Supplier: DigiKey; Supplier Part Number: P15122CT-ND; RoHS: Compliant; Category: Fuses; Stock: 245517; Pricing: 1=0,29, 5=0,238, 10=0,219, 50=0,182, 100=0,1679, 250=0,151, 500=0,1393, 1000=0,12849, 5000=0,1071 (USD); Case/Package: 0402; Case Code (Imperial): 0402; Case Code (Metric): 1005; Current: 500mA; Current Rating: 500mA; Fuse Current: 500mA; Height: 390µm; Length: 1mm; Lifecycle Status: Production; Max Operating Temperature: 125°C; Max Voltage Rating (DC): 32V; Min Operating Temperature: -40°C; Mounting Technology: Surface Mount; Pins: 2; Packaging: Cut Tape; REACH SVHC: Yes; Voltage Rating: 32V; Voltage Rating (DC): 32V; Width: 500µm; ComponentLink1URL: https://datasheet.octopart.com:443/ERBRD0R50X-Panasonic-datasheet-180975427.pdf?src-supplier=IHS; ComponentLink1Description: https://datasheet.octopart.com:443/ERBRD0R50X-Panasonic-datasheet-180975427.pdf?src-supplier=IHS; ComponentLink2URL: https://datasheet.octopart.com:443/ERBRD0R50X-Panasonic-datasheet-78834729.pdf?src-supplier=Upverter; ComponentLink2Description: https://datasheet.octopart.com:443/ERBRD0R50X-Panasonic-datasheet-78834729.pdf?src-supplier=Upverter; ComponentLink3URL: https://datasheet.octopart.com:443/ERBRD0R50X-Panasonic-datasheet-136807619.pdf?src-supplier=Master+Electronics; ComponentLink3Description: https://datasheet.octopart.com:443/ERBRD0R50X-Panasonic-datasheet-136807619.pdf?src-supplier=Master+Electronics; ComponentLink4URL: https://datasheet.octopart.com:443/ERBRD0R50X-Panasonic-datasheet-10129016.pdf?src-supplier=Newark; ComponentLink4Description: https://datasheet.octopart.com:443/ERBRD0R50X-Panasonic-datasheet-10129016.pdf?src-supplier=Newark; ComponentLink5URL: https://datasheet.octopart.com:443/ERB-RD0R50X-Panasonic-datasheet-11844109.pdf?src-supplier=Electro+Sonic; ComponentLink5Description: https://datasheet.octopart.com:443/ERB-RD0R50X-Panasonic-datasheet-11844109.pdf?src-supplier=Electro+Sonic; Supplier 1: DigiKey; Supplier Part Number 1: P15122CT-ND
footprint Fuse
pins: 1, 2

## ERJ-3EKF1004V
designator R?, comment R 1Mr 0603
Res Thick Film 0603 1M Ohm 1% 1/10W ±100ppm/°C Molded SMD Punched Carrier T/R; Manufacturer: Panasonic; Manufacturer Part Number: ERJ-3EKF1004V; Max Power Dissipation: 100mW; Value: 1MΩ; Voltage Rating: 75V; Supplier: DigiKey; Supplier Part Number: P1.00MHCT-ND; RoHS: Compliant; Category: Chip SMD Resistors; Stock: 52419; Pricing: 1=0,1, 10=0,034, 25=0,0256, 50=0,021, 100=0,0173, 250=0,01364, 500=0,01158, 1000=0,00995 (USD); Case/Package: 0603; Case Code (Imperial): 0603; China RoHS: Non-Compliant; Composition: Thick Film; Contact Plating: Tin; Depth: 800µm; Features: Automotive AEC-Q200; Height: 450µm; Lead Free: Lead Free; Length: 1.6mm; Lifecycle Status: Production; Max Operating Temperature: 155°C; Military Standard: Not; Min Operating Temperature: -55°C; Mounting Technology: Surface Mount; Pins: 2; Number of Terminals: 2; Number of Terminations: 2; Power Dissipation: 100mW; Power Rating: 100mW; Radiation Hardening: No; REACH SVHC: Yes; Schedule B: 8533210045, 8533210045|8533210045|8533210045|8533210045|8533210045|8533210045, 8533210045|8533210045|8533210045|8533210045|8533210045|8533210045|8533210045, 8533210045|8533210045|8533210045|8533210045|8533210045|8533210045|8533210045|8533210045|8533210045; Temperature Coefficient: 100ppm/°C; Termination: SMD/SMT; Tolerance: 1%; Voltage Rating (DC): 75V; Width: 800µm; Working Voltage: 75V; ComponentLink1URL: https://sigma.octopart.com:443/138766958/technical_drawing/Panasonic-ERJ-3EKF1004V.pdf?src-supplier=Upverter; ComponentLink1Description: https://sigma.octopart.com:443/138766958/technical_drawing/Panasonic-ERJ-3EKF1004V.pdf?src-supplier=Upverter; ComponentLink2URL: https://datasheet.octopart.com:443/ERJ-3EKF1004V-Panasonic-datasheet-82288794.pdf?src-supplier=Future+Electronics; ComponentLink2Description: https://datasheet.octopart.com:443/ERJ-3EKF1004V-Panasonic-datasheet-82288794.pdf?src-supplier=Future+Electronics; ComponentLink3URL: https://datasheet.octopart.com:443/ERJ-3EKF1004V-Panasonic-datasheet-13266541.pdf?src-supplier=RS+(Formerly+Allied+Electronics); ComponentLink3Description: https://datasheet.octopart.com:443/ERJ-3EKF1004V-Panasonic-datasheet-13266541.pdf?src-supplier=RS+(Formerly+Allied+Electronics); ComponentLink4URL: https://datasheet.octopart.com:443/ERJ-3EKF1004V-Panasonic-datasheet-10025800.pdf?src-supplier=element14+APAC; ComponentLink4Description: https://datasheet.octopart.com:443/ERJ-3EKF1004V-Panasonic-datasheet-10025800.pdf?src-supplier=element14+APAC; ComponentLink5URL: https://datasheet.octopart.com:443/ERJ-3EKF1004V-Panasonic-datasheet-8853621.pdf?src-supplier=element14+APAC; ComponentLink5Description: https://datasheet.octopart.com:443/ERJ-3EKF1004V-Panasonic-datasheet-8853621.pdf?src-supplier=element14+APAC; ComponentLink6URL: https://datasheet.octopart.com:443/ERJ-3EKF1004V-Panasonic-datasheet-5313456.pdf?src-supplier=element14+APAC; ComponentLink6Description: https://datasheet.octopart.com:443/ERJ-3EKF1004V-Panasonic-datasheet-5313456.pdf?src-supplier=element14+APAC; ComponentLink7URL: https://datasheet.octopart.com:443/ERJ-3EKF1004V-Panasonic-datasheet-48891056.pdf?src-supplier=Newark; ComponentLink7Description: https://datasheet.octopart.com:443/ERJ-3EKF1004V-Panasonic-datasheet-48891056.pdf?src-supplier=Newark; ComponentLink8URL: https://datasheet.octopart.com:443/ERJ-3EKF1004V-Panasonic-datasheet-168681906.pdf?src-supplier=Newark; ComponentLink8Description: https://datasheet.octopart.com:443/ERJ-3EKF1004V-Panasonic-datasheet-168681906.pdf?src-supplier=Newark; ComponentLink9URL: https://datasheet.octopart.com:443/ERJ-3EKF1004V-Panasonic-datasheet-136608610.pdf?src-supplier=Farnell; ComponentLink9Description: https://datasheet.octopart.com:443/ERJ-3EKF1004V-Panasonic-datasheet-136608610.pdf?src-supplier=Farnell; ComponentLink10URL: https://datasheet.octopart.com:443/ERJ-3EKF1004V-Panasonic-datasheet-154766169.pdf?src-supplier=Master+Electronics; ComponentLink10Description: https://datasheet.octopart.com:443/ERJ-3EKF1004V-Panasonic-datasheet-154766169.pdf?src-supplier=Master+Electronics; ComponentLink11URL: https://datasheet.octopart.com:443/ERJ3EKF1004V-Panasonic-datasheet-138819429.pdf?src-supplier=Burklin+Elektronik; ComponentLink11Description: https://datasheet.octopart.com:443/ERJ3EKF1004V-Panasonic-datasheet-138819429.pdf?src-supplier=Burklin+Elektronik; ComponentLink12URL: https://datasheet.octopart.com/ERJ-3EKF1004V-Panasonic-datasheet-78375410.pdf; ComponentLink12Description: https://datasheet.octopart.com/ERJ-3EKF1004V-Panasonic-datasheet-78375410.pdf; ComponentLink13URL: https://datasheet.octopart.com:443/ERJ-3EKF1004V-Panasonic-datasheet-11542829.pdf?src-supplier=Arrow+Electronics; ComponentLink13Description: https://datasheet.octopart.com:443/ERJ-3EKF1004V-Panasonic-datasheet-11542829.pdf?src-supplier=Arrow+Electronics; ComponentLink14URL: https://datasheet.octopart.com:443/ERJ-3EKF1004V-Panasonic-datasheet-7538305.pdf?src-supplier=Jameco; ComponentLink14Description: https://datasheet.octopart.com:443/ERJ-3EKF1004V-Panasonic-datasheet-7538305.pdf?src-supplier=Jameco; ComponentLink15URL: https://datasheet.octopart.com:443/ERJ-3EKF1004V-Panasonic-datasheet-118602.pdf?src-supplier=DigiKey; ComponentLink15Description: https://datasheet.octopart.com:443/ERJ-3EKF1004V-Panasonic-datasheet-118602.pdf?src-supplier=DigiKey; ComponentLink16URL: https://datasheet.octopart.com:443/ERJ-3EKF1004V-Panasonic-datasheet-41391857.pdf?src-supplier=Electro+Sonic; ComponentLink16Description: https://datasheet.octopart.com:443/ERJ-3EKF1004V-Panasonic-datasheet-41391857.pdf?src-supplier=Electro+Sonic
footprint R 1Mr 0603
pins: 1, 2